# Altium footprint library SOT50P160X60-6N.PcbLib: 1 footprints
Each footprint in its own frame and in the unit in brackets; x right, y up, seen from the top. Pads: shape width x height; smd on the part's side, far side on the other; paste and mask are expansions set on the pad; w line width, h text height; cw(c..) or ccw(c..) is an arc to the next point about the centre after c.
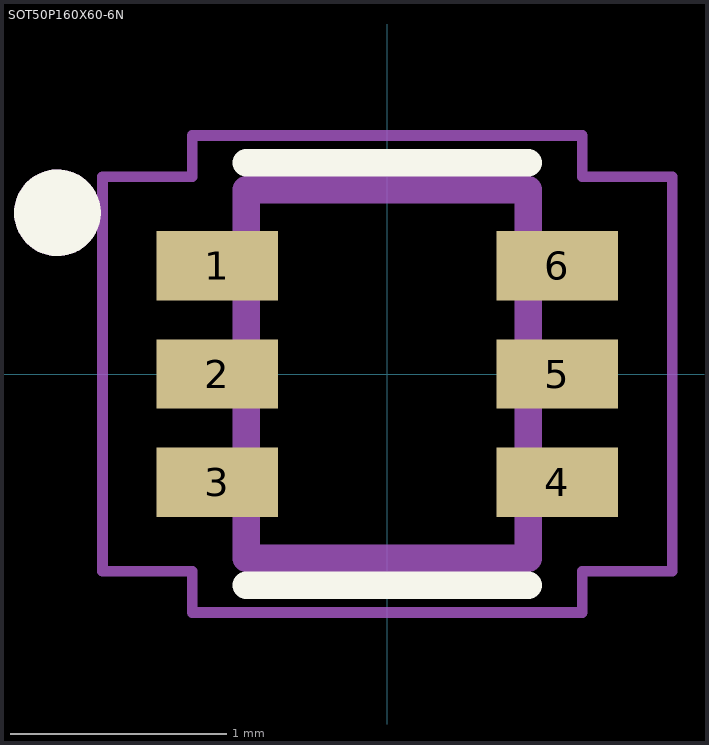
[diagram p0: the footprint, top view; thin cyan lines are the x and y axes]

## SOT50P160X60-6N [mm]
pads (6):
  rect 0.56x0.32 smd: 1(-0.785,0.5) 2(-0.785,0) 3(-0.785,-0.5) 4(0.785,-0.5) 5(0.785,0) 6(0.785,0.5)
Top Overlay:
  circle w0.2: c-1.522,0.744 r0.1
  lines w0.127: -0.65,-0.974 0.65,-0.974 ; -0.65,0.974 0.65,0.974
Mechanical 13:
  circle w0.2: c-1.522,0.744 r0.1
  lines w0.127: -0.65,-0.85 -0.65,0.85 0.65,0.85 0.65,-0.85 -0.65,-0.85
Mechanical 15:
  lines w0.05: -1.315,-0.91 -1.315,0.91 -0.9,0.91 -0.9,1.1 0.9,1.1 0.9,0.91 1.315,0.91 1.315,-0.91 0.9,-0.91 0.9,-1.1 -0.9,-1.1 -0.9,-0.91 -1.315,-0.91
3D body "step_temp.STEP": height 0.6, standoff 0, extent -0.8,-0.8 0.8,0.8